# Altium footprint library USB Connectors.PcbLib: 37 footprints (part 2 of 3)
Each footprint in its own frame and in the unit in brackets; x right, y up, seen from the top. Pads: shape width x height; smd on the part's side, far side on the other; paste and mask are expansions set on the pad; w line width, h text height; cw(c..) or ccw(c..) is an arc to the next point about the centre after c.
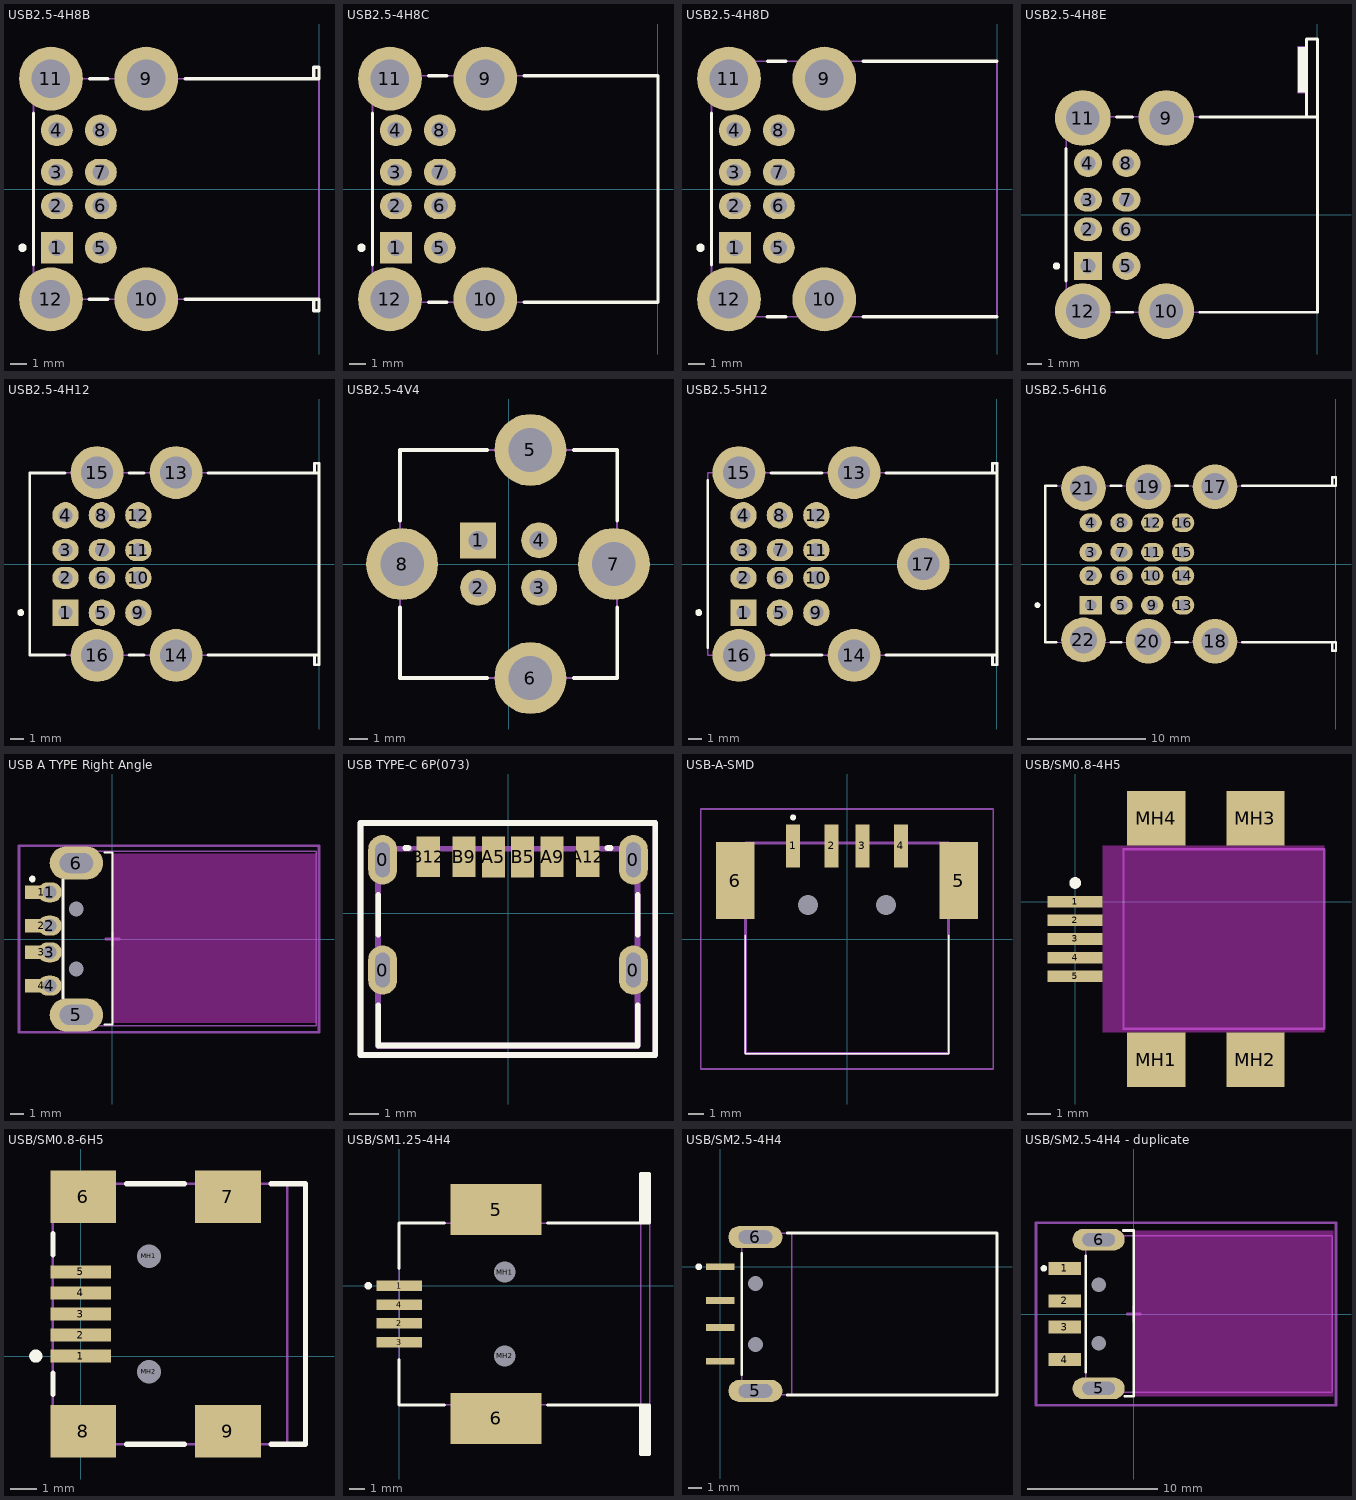
[diagram p1: the footprints below, top view; thin cyan lines are the x and y axes]

## USB2.5-4H8B [mm] "Connector; USB1.1, Type A, Thru-Hole; 4x4 Position; Right Angle"
height 15.82
pads (12):
  rect 1.9x1.9 hole 1: 1(-15.61,-3.5)
  oval 1.9x1.6 hole 1: 2(-15.61,-1) 3(-15.61,1) 6(-12.99,-1) 7(-12.99,1)
  round 1.9 hole 1: 4(-15.61,3.5) 5(-12.99,-3.5) 8(-12.99,3.5)
  round 3.8 hole 2.3: 9(-10.28,6.57) 10(-10.28,-6.57) 11(-15.96,6.57) 12(-15.96,-6.57)
Top Overlay:
  circle w0.25: c-17.65,-3.5 r0.125
  lines w0.2: -17,-4.51 -17,4.51 ; -13.68,-6.57 -12.58,-6.57 ; -13.66,6.57 -12.58,6.57 ; -7.97,-6.57 0,-6.57 0,-7.25 -0.32,-7.25 -0.32,-6.57 ; -7.97,6.57 0,6.57 0,7.25 -0.32,7.25 -0.32,6.57
Mechanical 1:
  lines w0.1: 0,-6.57 0,6.57
  text "PCB Edge" at -0.368,-6.15 h0.2
Mechanical 13:
  lines w0.1: -17,-7.25 -17,7.25 ; -17,-6.57 -0.32,-6.57 -0.32,-7.25 0,-7.25 0,7.25 -0.32,7.25 -0.32,6.57 -17,6.57
3D body "14378.STEP": height 15.6, standoff -3.8, extent -17,-7.849 0.598,7.849

## USB2.5-4H8C [mm] "Connector; USB1.1, Type A, Thru-Hole; 4x4 Position; Right Angle"
height 15.82
pads (12):
  rect 1.9x1.9 hole 1: 1(-15.6,-3.5)
  oval 1.9x1.6 hole 1: 2(-15.6,-1) 3(-15.6,1) 6(-12.98,-1) 7(-12.98,1)
  round 1.9 hole 1: 4(-15.6,3.5) 5(-12.98,-3.5) 8(-12.98,3.5)
  round 3.8 hole 2.3: 9(-10.27,6.57) 10(-10.27,-6.57) 11(-15.95,6.57) 12(-15.95,-6.57)
Top Overlay:
  circle w0.25: c-17.64,-3.5 r0.125
  lines w0.2: -16.99,-4.51 -16.99,4.51 ; -13.65,-6.75 -12.57,-6.75 ; -13.65,6.75 -12.57,6.75 ; -7.97,-6.75 0.01,-6.75 0.01,6.75 -7.97,6.75
Mechanical 13:
  lines w0.1: -16.99,-6.75 0.01,-6.75 0.01,6.75 -16.99,6.75 -16.99,-6.75
3D body: height 15.82, standoff 0, extent -16.99,-6.75 0.01,6.75

## USB2.5-4H8D [mm] "Connector; USB1.1, Type A, Thru-Hole; 4x4 Position; Right Angle"
height 16.8
pads (12):
  rect 1.9x1.9 hole 1: 1(-15.61,-3.5)
  oval 1.9x1.6 hole 1: 2(-15.61,-1) 3(-15.61,1) 6(-12.99,-1) 7(-12.99,1)
  round 1.9 hole 1: 4(-15.61,3.5) 5(-12.99,-3.5) 8(-12.99,3.5)
  round 3.8 hole 2.3: 9(-10.28,6.57) 10(-10.28,-6.57) 11(-15.96,6.57) 12(-15.96,-6.57)
Top Overlay:
  circle w0.25: c-17.65,-3.5 r0.125
  lines w0.2: -17,-4.51 -17,4.51 ; -13.68,-7.6 -12.58,-7.6 ; -13.66,7.6 -12.58,7.6 ; -7.97,-7.6 0,-7.6 ; -7.97,7.6 0,7.6
Mechanical 1:
  lines w0.1: 0,-7.6 0,7.6
  text "PCB Edge" at -0.2,-7.29 h0.2
Mechanical 13:
  lines w0.1: -17,-7.6 0,-7.6 0,7.6 -17,7.6 -17,-7.6
3D body: height 16.8, standoff 0, extent -17,-7.6 0,7.6

## USB2.5-4H8E [mm] "Connector; USB1.1, Type A, Thru-Hole; 4x4 Position; Right Angle"
height 15.47
pads (12):
  rect 1.9x1.9 hole 1: 1(-15.61,-3.5)
  oval 1.9x1.6 hole 1: 2(-15.61,-1) 3(-15.61,1) 6(-12.99,-1) 7(-12.99,1)
  round 1.9 hole 1: 4(-15.61,3.5) 5(-12.99,-3.5) 8(-12.99,3.5)
  round 3.8 hole 2.3: 9(-10.28,6.57) 10(-10.28,-6.57) 11(-15.96,6.57) 12(-15.96,-6.57)
Top Overlay:
  circle w0.25: c-17.75,-3.5 r0.125
  rectangle: -1.33,8.3 -0.75,11.42
  lines w0.2: -17.1,-4.51 -17.1,4.51 ; -13.68,-6.65 -12.58,-6.65 ; -13.66,6.65 -12.58,6.65 ; -7.97,-6.65 0,-6.65 0,6.65 ; -7.97,6.65 0,6.65 ; -0.75,6.65 -0.75,11.95 0,11.95 0,6.65
Mechanical 13:
  lines w0.1: -0.75,8.3 -1.33,8.3 -1.33,11.42 -0.75,11.42 ; -17.1,-6.65 0,-6.65 0,11.95 -0.75,11.95 -0.75,6.65 -17.1,6.65 -17.1,-6.65
3D body: height 15.47, standoff 0, extent -17.099,-6.649 -0.001,11.949
3D body: height 15.47, standoff 0, extent -1.329,8.301 -0.751,11.419

## USB2.5-4H12 [mm] "Connector; USB1.1, Type A, Thru-Hole; 4x4x4 Position; Right Angle"
height 23.9
pads (16):
  rect 1.9x1.9 hole 1: 1(-18.23,-3.5)
  oval 1.9x1.6 hole 1: 2(-18.23,-1) 3(-18.23,1) 6(-15.61,-1) 7(-15.61,1) 10(-12.99,-1) 11(-12.99,1)
  round 1.9 hole 1: 4(-18.23,3.5) 5(-15.61,-3.5) 8(-15.61,3.5) 9(-12.99,-3.5) 12(-12.99,3.5)
  round 3.8 hole 2.3: 13(-10.28,6.57) 14(-10.28,-6.57) 15(-15.96,6.57) 16(-15.96,-6.57)
Top Overlay:
  circle w0.25: c-21.45,-3.5 r0.125
  lines w0.2: -18.26,-6.55 -20.8,-6.55 -20.8,6.55 -18.26,6.55 ; -13.66,-6.55 -12.58,-6.55 ; -13.66,6.55 -12.58,6.55 ; -7.98,-6.55 0,-6.55 ; -7.98,6.55 0,6.55 ; -0.32,-6.55 -0.32,-7.25 0,-7.25 0,-6.55 ; -0.32,6.55 -0.32,7.25 0,7.25 0,6.55 ; 0,-6.55 0,6.55
Mechanical 13:
  lines w0.1: -20.8,-6.55 -0.32,-6.55 -0.32,-7.25 0,-7.25 0,7.25 -0.32,7.25 -0.32,6.55 -20.8,6.55 -20.8,-6.55
3D body: height 23.9, standoff 0, extent -20.799,-7.249 -0.001,7.249

## USB2.5-4V4 [mm] "Connector; USB1.1, Type B, Thru-Hole; 4 Position; Vertical"
height 15.62
pads (8):
  rect 1.9x1.9 hole 1: 1(-1.61,1.25)
  round 1.9 hole 1: 2(-1.61,-1.25) 3(1.61,-1.25) 4(1.61,1.25)
  round 3.8 hole 2.3: 5(1.15,6.02) 6(1.15,-6.02) 7(5.56,0) 8(-5.63,0)
Top Overlay:
  lines w0.2: -5.73,-2.3 -5.73,-6.02 -1.15,-6.02 ; -5.73,2.3 -5.73,6.02 -1.15,6.02 ; 3.45,-6.02 5.73,-6.02 5.73,-2.3 ; 3.45,6.02 5.73,6.02 5.73,2.3
Mechanical 13:
  lines w0.1: -5.73,-6.02 5.73,-6.02 5.73,6.02 -5.73,6.02 -5.73,-6.02
3D body "5881.STEP": height 15.8, standoff -4.74, extent -5.65,-7.548 5.85,7.55

## USB2.5-5H12 [mm] "Connector; USB1.1, Type A, Thru-Hole; 4x4x4 Position; Right Angle"
height 23.9
pads (17):
  rect 1.9x1.9 hole 1: 1(-18.23,-3.5)
  oval 1.9x1.6 hole 1: 2(-18.23,-1) 3(-18.23,1) 6(-15.61,-1) 7(-15.61,1) 10(-12.99,-1) 11(-12.99,1)
  round 1.9 hole 1: 4(-18.23,3.5) 5(-15.61,-3.5) 8(-15.61,3.5) 9(-12.99,-3.5) 12(-12.99,3.5)
  round 3.8 hole 2.3: 13(-10.28,6.57) 14(-10.28,-6.57) 15(-18.56,6.57) 16(-18.56,-6.57) 17(-5.3,0)
Top Overlay:
  circle w0.25: c-21.45,-3.5 r0.125
  lines w0.2: -20.8,-6.03 -20.8,6.03 ; -16.26,-6.55 -12.58,-6.55 ; -16.26,6.55 -12.58,6.55 ; -7.98,-6.55 0,-6.55 ; -7.98,6.55 0,6.55 ; -0.32,-6.55 -0.32,-7.25 0,-7.25 0,-6.55 ; -0.32,6.55 -0.32,7.25 0,7.25 0,6.55 ; 0,-6.55 0,6.55
Mechanical 13:
  lines w0.1: -0.32,-7.25 -0.32,-6.55 -20.8,-6.55 -20.8,6.55 -0.32,6.55 -0.32,7.25 ; 0,-7.25 0,7.25
  lines w0.2: -0.32,-7.25 0,-7.25 ; -0.32,7.25 0,7.25
3D body: height 23.9, standoff 0, extent -20.799,-7.249 -0.001,7.249

## USB2.5-6H16 [mm] "Connector; USB1.1, Type A, Thru-Hole; 4x4x4x4 Position; Right Angle"
height 32.84
pads (22):
  rect 1.9x1.6 hole 1: 1(-20.85,-3.5)
  oval 1.9x1.6 hole 1: 2(-20.85,-1) 3(-20.85,1) 4(-20.85,3.5) 5(-18.23,-3.5) 6(-18.23,-1) 7(-18.23,1) 8(-18.23,3.5) 9(-15.61,-3.5) 10(-15.61,-1) 11(-15.61,1) 12(-15.61,3.5) 13(-12.99,-3.5) 14(-12.99,-1) 15(-12.99,1) 16(-12.99,3.5)
  round 3.8 hole 2.3: 17(-10.28,6.57) 18(-10.28,-6.57) 19(-15.96,6.57) 20(-15.96,-6.57) 21(-21.46,6.45) 22(-21.46,-6.45)
Top Overlay:
  circle w0.25: c-25.37,-3.5 r0.125
  lines w0.2: -23.76,-6.65 -24.72,-6.65 -24.72,6.65 -23.76,6.65 ; -19.16,-6.65 -18.26,-6.65 ; -19.16,6.65 -18.26,6.65 ; -13.66,-6.65 -12.58,-6.65 ; -13.66,6.65 -12.58,6.65 ; -7.98,-6.65 0,-6.65 0,-7.37 -0.32,-7.37 -0.32,-6.65 ; -7.98,6.65 0,6.65 0,7.37 -0.32,7.37 -0.32,6.65
Mechanical 1:
  lines w0.1: 0,-6.65 0,6.65
  text "PCB Edge" at -0.258,-6.292 h0.2
Mechanical 13:
  lines w0.1: -0.32,-7.37 -0.32,-6.65 -24.72,-6.65 -24.72,6.65 -0.32,6.65 -0.32,7.37 ; 0,-7.37 0,7.37
  lines w0.2: -0.32,-7.37 0,-7.37 ; -0.32,7.37 0,7.37
3D body: height 32.84, standoff 0, extent -24.719,-7.369 -0.001,7.369

## USB A TYPE Right Angle [mm] "Connector; USB1.1, Type A, SM; 4 Position; Right Angle DESIGNER ABBAS BASEREH"
height 4.5
pads (12):
  rect 2.5x1 smd: 1(-5.3,3.5) 2(-5.3,1) 3(-5.3,-1) 4(-5.3,-3.5)
  oval 1.8x1.5 hole 1: 1(-4.7,3.5) 2(-4.7,1) 3(-4.7,-1) 4(-4.7,-3.5)
  oval 4x2.5 hole 1.5 slot 2.5 at 0 deg: 5(-2.7,-5.7) 6(-2.7,5.7)
  round 0.8 hole 1.1 unplated: MH1(-2.7,-2.25) MH2(-2.7,2.25)
Top Overlay:
  circle w0.25: c-6,4.5 r0.125
  lines w0.15: -0.6,-6.4 0,-6.4 0,6.5 -0.6,6.5
  lines w0.2: -3.7,-4.475 -3.7,4.475
Keep-Out Layer:
  board cut-out: 0,6.4 0,-6.3 15.3,-6.3 15.3,6.4
Mechanical 1:
  lines w0.1: 0,-6 0,6
  text "PCB Edge" at 0.473,-5.173 h0.25
Mechanical 13:
  lines w0.1: -3.7,-6.5 15.3,-6.5 15.3,6.6 -3.7,6.6 -3.7,-6.5
Mechanical 15:
  lines w0.2: -0.5,0 0.5,0 ; 0,-0.5 0,0.5 ; -7,-7 -7,7 15.5,7 15.5,-7 -7,-7
3D body "UP2-AH-1-TH.stEp": height 3.45, standoff -2.9, extent -4.9,-6.3 15.1,6.3

## USB TYPE-C 6P(073) [mm] "SHOUHAN Right Angle 6P Female Type-C SMD USB Connectors"
pads (10):
  oval 1x1.7 hole 0.5 slot 1.2 at 90 deg paste+0 mask+0.051: 0(-4.32,-1.951) 0(-4.32,1.849) 0(4.32,-1.951) 0(4.32,1.849)
  rect 0.8x1.4 smd paste-100 mask+0.051: A5(-0.5,1.947) A9(1.52,1.948) A12(2.75,1.949) B5(0.5,1.947) B9(-1.52,1.951) B12(-2.75,1.949)
Top Overlay:
  lines w0.2: -4.47,-3.167 -4.47,-4.551 4.47,-4.551 4.47,-3.167 ; -4.47,-0.734 -4.47,0.633 ; -3.539,2.25 -3.431,2.25 ; 3.431,2.25 3.539,2.25 ; 4.47,-0.734 4.47,0.633 ; -5.082,-4.882 5.078,-4.882 5.078,3.119 -4.701,3.119 -5.082,3.119 -5.082,-4.882
Top Paste:
  drawing of 10 lines, arcs and shapes, not listed
Mechanical 1:
  lines w0.2: -4.481,-4.569 4.459,-4.569 4.459,2.231 -4.481,2.231 -4.481,-4.569
Mechanical 13:
  lines w0.2: -4.47,-3.175 -4.47,-4.547 4.47,-4.547
Mechanical 15:
  lines w0.2: -5.082,-4.882 5.078,-4.882 5.078,3.119 -4.701,3.119 -5.082,3.119 -5.082,-4.882
3D body "User Library-USB_Type_C_6pin.step": height 3.46, standoff -0.76, extent -4.47,-4.59 4.47,2.21

## USB-A-SMD [mm]
pads (8):
  rect 0.9x2.8 smd: 1(-3.5,6.05) 2(-1,6.05) 3(1,6.05) 4(3.5,6.05)
  rect 2.5x5 smd: 5(7.25,3.8) 6(-7.25,3.8)
  round 0.65 hole 1.3 unplated: MH1(-2.54,2.2) MH2(2.54,2.2)
Top Overlay:
  lines w0.1: -6.6,0.25 -6.6,-7.45 6.6,-7.45 6.6,0.25
  lines w0.2: -3.5,7.8 ccw(c-3.5,7.9) -3.5,8 ccw(c-3.5,7.9) -3.5,7.8
Mechanical 13:
  lines w0.2: -6.6,-7.45 6.6,-7.45 6.6,6.25 -6.6,6.25 -6.6,-7.45
Mechanical 15:
  lines w0.1: -9.5,-8.45 9.5,-8.45 9.5,8.45 -9.5,8.45 -9.5,-8.45
3D body "User Library-c-292303-9-e-3d.step": height 7.67, standoff -1.12, extent -8.63,-7.921 8.63,7.239

## USB/SM0.8-4H5 [mm] "Connector; USB Mini-B, Sinking Type, SM; 5 Position; Right Angle"
height 0.65
pads (9):
  rect 2.35x0.5 smd: 1(0,0) 2(-0.001,-0.8) 3(-0.001,-1.6) 4(-0.001,-2.4) 5(-0.001,-3.2)
  rect 2.5x2.35 smd: MH1(3.474,-6.775) MH2(7.725,-6.775) MH3(7.725,3.575) MH4(3.474,3.575)
Top Overlay:
  circle w0.25: c-0.001,0.8 r0.125
Keep-Out Layer:
  rectangle: 1.175,-5.6 10.675,2.4
Mechanical 13:
  lines w0.1: 2.074,-5.45 10.675,-5.45 10.675,2.25 2.074,2.25 2.074,-5.45

## USB/SM0.8-6H5 [mm] "Connector; USB2.0, Type B, SM; 5 Position; Right Angle"
height 3.9
pads (11):
  rect 2.3x0.5 smd: 1(0,0) 2(0,0.8) 3(0,1.6) 4(0,2.4) 5(0,3.2)
  rect 2.5x2 smd: 6(0.1,6.05) 7(5.6,6.05) 8(0.1,-2.85) 9(5.6,-2.85)
  round 0.6 hole 0.9 unplated: MH1(2.6,3.8) MH2(2.6,-0.6)
Top Overlay:
  circle w0.25: c-1.7,0 r0.125
  lines w0.2: -1.05,-1.45 -1.05,-0.65 ; -1.05,3.85 -1.05,4.65 ; 1.75,-3.35 3.95,-3.35 ; 1.75,6.55 3.95,6.55 ; 7.25,-3.35 8.55,-3.35 8.55,6.55 7.25,6.55
Mechanical 1:
  lines w0.1: 7.85,-3.35 7.85,6.55
  text "PCB Edge" at 8.282,-2.436 h0.25
Mechanical 13:
  lines w0.1: -1.05,-3.35 -1.05,6.55 8.55,6.55 8.55,-3.35 -1.05,-3.35
3D body "usb_a-usb_b-m5-smd-c.STEP": height 3.93, standoff -1, extent -0.75,-3.35 8.5,6.55

## USB/SM1.25-4H4 [mm] "Connector; USB1.1, Type B, SM; 4 Position; Right Angle"
height 11
pads (8):
  rect 3x0.7 smd: 1(0,0) 2(0,-2.5) 3(0,-3.75) 4(0,-1.25)
  rect 6.04x3.4 smd: 5(6.42,5.045) 6(6.42,-8.795)
  round 1.1 hole 1.4 unplated: MH1(7,0.9) MH2(7,-4.65)
Top Overlay:
  circle w0.25: c-2.05,0 r0.125
  rectangle: 16,-11.195 16.6,-7.895
  rectangle: 16,4.145 16.6,7.445
  lines w0.2: 0,-4.875 0,-7.895 3,-7.895 ; 0,1.125 0,4.145 3,4.145 ; 9.84,-7.895 16,-7.895 ; 9.84,4.145 16,4.145 ; 16,-7.895 16.6,-7.895 16.6,-11.195 16,-11.195 16,-7.895 ; 16,4.145 16.6,4.145 16.6,7.445 16,7.445 16,4.145
Mechanical 1:
  lines w0.1: 16,-7.895 16,4.145
  text "PCB Edge" at 15.781,-7.625 h0.25
Mechanical 13:
  lines w0.1: 16,-7.895 16,-11.195 16.6,-11.195 16.6,7.445 16,7.445 16,4.145 ; 16.6,-7.895 0,-7.895 0,4.145 16.6,4.145
3D body "14383.STEP": height 11, standoff -1.5, extent -1.135,-9.978 16.015,6.222
3D body "Samtec-DEFAULT.STEP": height 11.05, standoff 0.55, extent 6.805,-7.373 72.755,3.827

## USB/SM2.5-4H4 [mm] "Connector; USB1.1, Type A, SM; 4 Position; Right Angle"
height 4.5
pads (8):
  rect 2.1x0.5 smd: 1(0,0) 2(0,-2.5) 3(0,-4.5) 4(0,-7)
  oval 4x1.65 hole 1 slot 2.5 at 0 deg: 5(2.6,-9.2) 6(2.6,2.2)
  round 0.8 hole 1.1 unplated: MH1(2.6,-5.75) MH2(2.6,-1.25)
Top Overlay:
  circle w0.25: c-1.6,0 r0.125
  lines w0.2: 1.6,-7.975 1.6,0.975 ; 4.97,-9.5 20.5,-9.5 20.5,2.5 4.97,2.5
Mechanical 1:
  lines w0.1: 5.3,-9.5 5.3,2.5
  text "PCB Edge" at 5.773,-8.673 h0.25
Mechanical 13:
  lines w0.1: 1.6,-9.5 1.6,2.5 20.5,2.5 20.5,-9.5 1.6,-9.5
3D body "14381.STEP": height 3.13, standoff -2.67, extent 0,-9.803 20.3,2.803

## USB/SM2.5-4H4 - duplicate [mm] "Connector; USB1.1, Type A, SM; 4 Position; Right Angle DESIGNER ABBAS BASEREH"
height 4.5
pads (8):
  rect 2.5x1 smd: 1(-5.3,3.5) 2(-5.3,1) 3(-5.3,-1) 4(-5.3,-3.5)
  oval 4x1.65 hole 1 slot 2.5 at 0 deg: 5(-2.7,-5.7) 6(-2.7,5.7)
  round 0.8 hole 1.1 unplated: MH1(-2.7,-2.25) MH2(-2.7,2.25)
Top Overlay:
  circle w0.25: c-6.9,3.5 r0.125
  lines w0.2: -3.7,-4.475 -3.7,4.475 ; -0.8,6.4 0,6.4 0,-6.3 -0.7,-6.3
Keep-Out Layer:
  board cut-out: 0,6.4 0,-6.3 15.3,-6.3 15.3,6.4
Mechanical 1:
  lines w0.1: 0,-6 0,6
  text "PCB Edge" at 0.473,-5.173 h0.25
Mechanical 13:
  lines w0.1: -3.7,-6 15.2,-6 15.2,6 -3.7,6 -3.7,-6
Mechanical 15:
  lines w0.2: -0.5,0 0.5,0 ; 0,-0.5 0,0.5 ; -7.5,-7 -7.5,7 15.5,7 15.5,-7 -7.5,-7
3D body "14381.STEP": height 3.13, standoff -2.67, extent -5.3,-6.303 15,6.303